# Altium footprint library CC2541.PcbLib: 1 footprints
Each footprint in its own frame and in the unit in brackets; x right, y up, seen from the top. Pads: shape width x height; smd on the part's side, far side on the other; paste and mask are expansions set on the pad; w line width, h text height; cw(c..) or ccw(c..) is an arc to the next point about the centre after c.
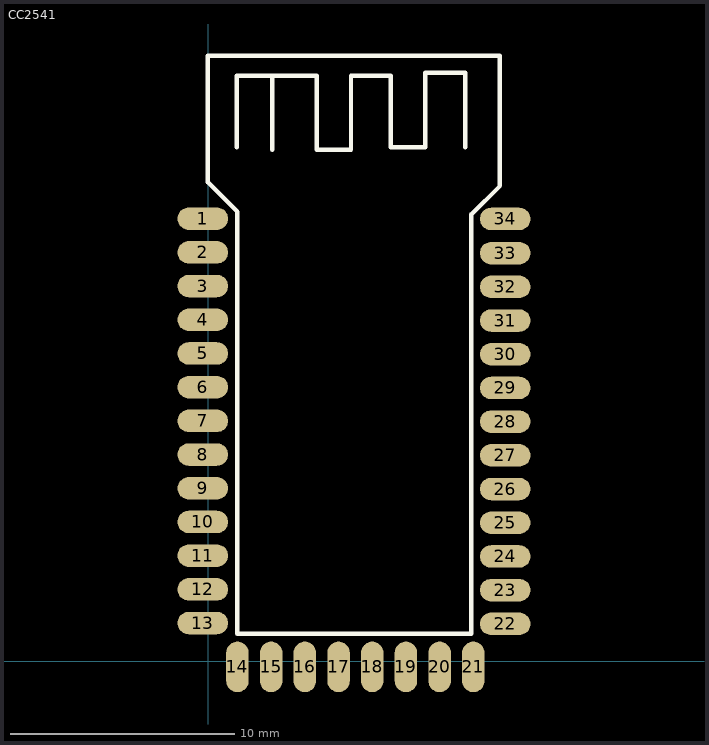
[diagram p0: the footprint, top view; thin cyan lines are the x and y axes]

## CC2541 [mil]
pads (34):
  oval 88.74x39.37 smd: 1(-10,775.43) 2(-10,716.38) 3(-10,657.32) 4(-10,598.27) 5(-10,539.21) 6(-10,480.16) 7(-10,421.1) 8(-10,362.05) 9(-10,302.99) 10(-10,243.94) 11(-10,184.88) 12(-10,125.83) 13(-10,66.77) 22(520,65.43) 23(520,124.49) 24(520,183.54) 25(520,242.6) 26(520,301.65) 27(520,360.71) 28(520,419.76) 29(520,478.82) 30(520,537.87) 31(520,596.93) 32(520,655.98) 33(520,715.04) 34(520,775)
  oval 39.37x88.74 smd: 14(50.75,-10) 15(109.8,-10) 16(168.86,-10) 17(227.91,-10) 18(286.97,-10) 19(346.02,-10) 20(405.08,-10) 21(464.13,-10)
Top Overlay:
  lines w7.87: 49.75,901 49.75,1026 119.75,1026 189.75,1026 189.75,896 249.75,896 249.75,1026 319.75,1026 319.75,901 379.75,901 379.75,1031 449.75,1031 449.75,901 ; 112,896 112,1026 ; -1.06,839.68 50.75,787.87 50.75,47.87 460.75,47.87 460.75,782.87 510.75,832.87 510.75,1060.87 -1.06,1060.87 -1.06,839.68